# Altium footprint library SamacSys.PcbLib: 26 footprints (part 1 of 2)
Each footprint in its own frame and in the unit in brackets; x right, y up, seen from the top. Pads: shape width x height; smd on the part's side, far side on the other; paste and mask are expansions set on the pad; w line width, h text height; cw(c..) or ccw(c..) is an arc to the next point about the centre after c.
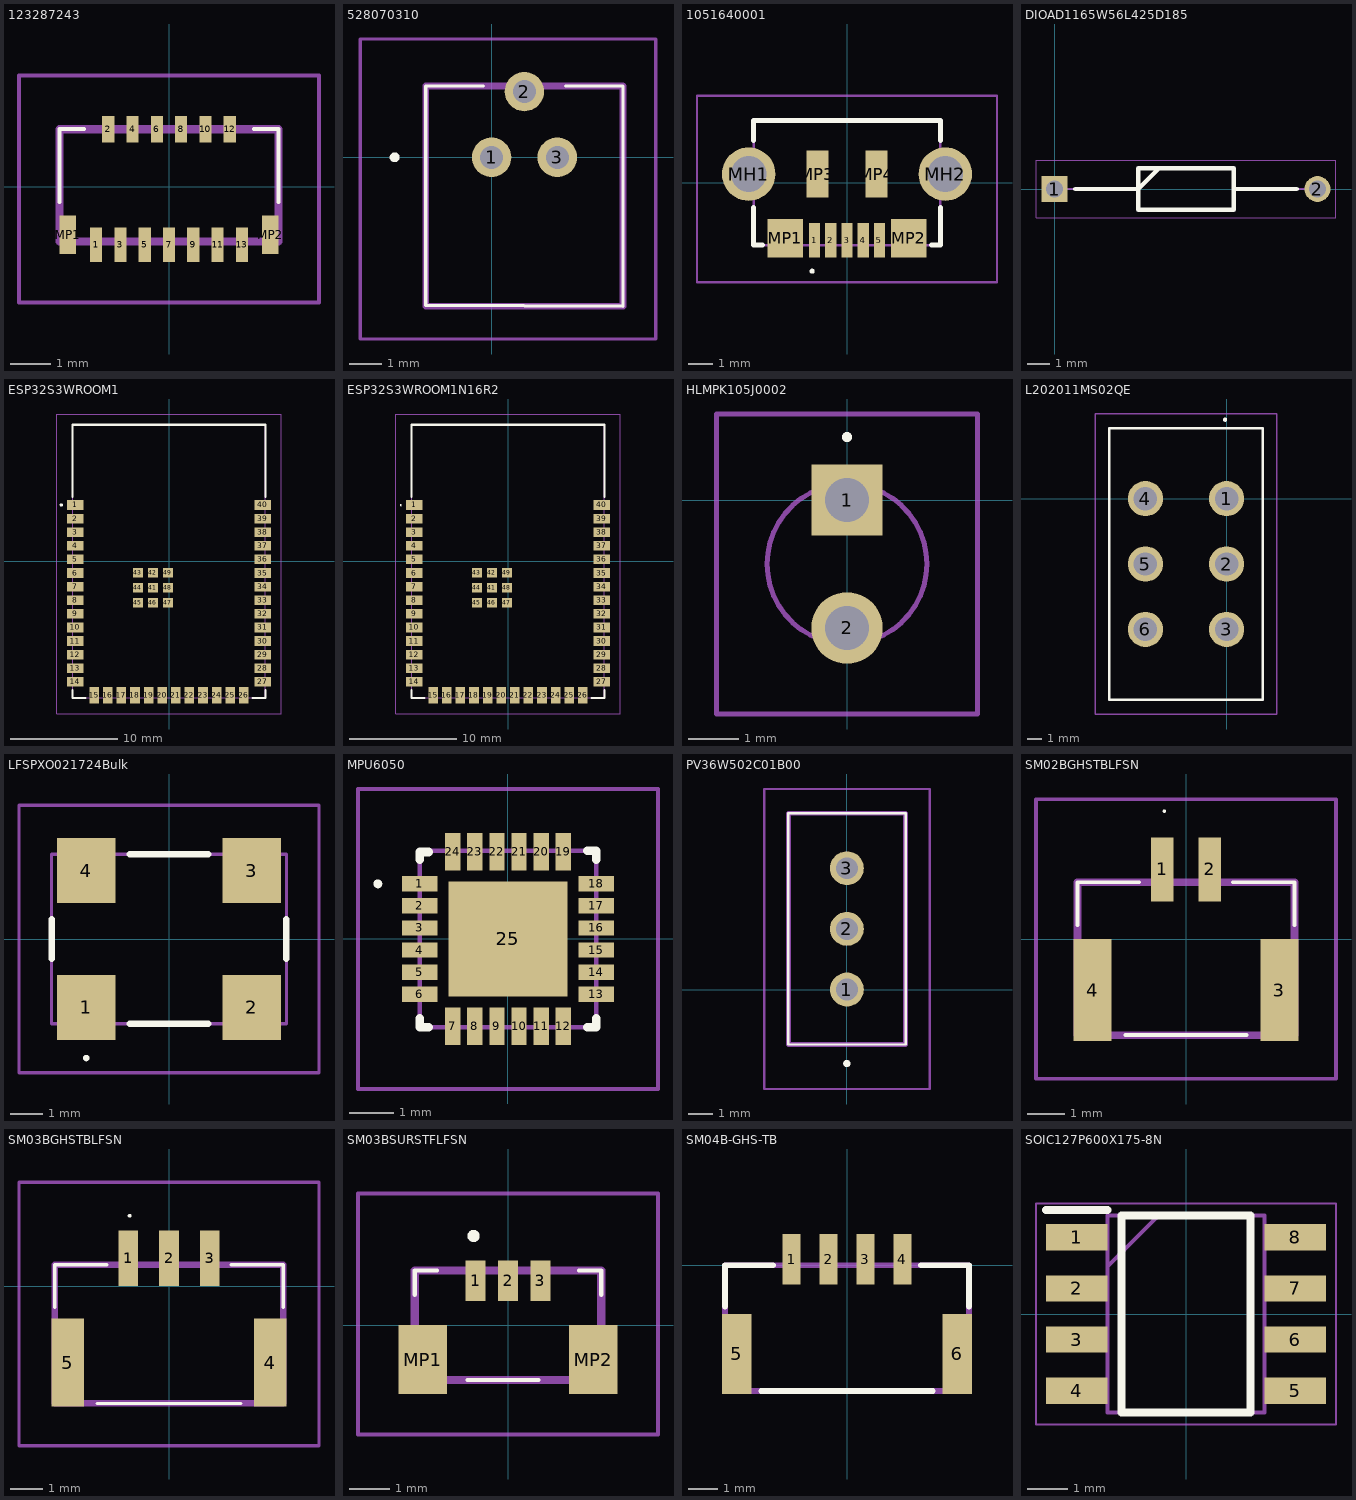
[diagram p0: the footprints below, top view; thin cyan lines are the x and y axes]

## 123287243 [mm]
pads (15):
  rect 0.3x0.85 smd: 1(-1.8,-1.425) 3(-1.2,-1.425) 5(-0.6,-1.425) 7(0,-1.425) 9(0.6,-1.425) 11(1.2,-1.425) 13(1.8,-1.425)
  rect 0.3x0.65 smd: 2(-1.5,1.425) 4(-0.9,1.425) 6(-0.3,1.425) 8(0.3,1.425) 10(0.9,1.425) 12(1.5,1.425)
  rect 0.4x0.95 smd: MP1(-2.5,-1.175) MP2(2.5,-1.175)
Top Overlay:
  lines w0.1: -2.7,-0.375 -2.7,1.425 -2.1,1.425 ; 2.1,1.425 2.7,1.425 2.7,-0.375
Mechanical 13:
  lines w0.2: -2.7,-1.345 2.7,-1.345 2.7,1.425 -2.7,1.425 -2.7,-1.345
Mechanical 15:
  lines w0.1: -3.7,-2.85 3.7,-2.85 3.7,2.75 -3.7,2.75 -3.7,-2.85
3D body "1-2328724-3.stp": height 1, standoff 0, extent -2.7,-1.957 2.7,1.52

## 528070310 [mm]
pads (3):
  round 1.2 hole 0.7: 1(0,0) 2(1,2) 3(2,0)
Top Overlay:
  lines w0.1: -0.25,2.17 -2,2.17 -2,-4.5 4,-4.53 4,2.17 2.25,2.17
  lines w0.2: -3,0 ccw(c-2.95,0) -2.9,0 ; -3,0 cw(c-2.95,0) -2.9,0 ; -3,0 ccw(c-2.95,0) -2.9,0
Mechanical 13:
  lines w0.2: -2,-4.53 -2,2.17 4,2.17 4,-4.53 -2,-4.53
Mechanical 15:
  lines w0.1: -4,-5.53 -4,3.6 5,3.6 5,-5.53 -4,-5.53
3D body "52807-0310.stp": height 3.6, standoff -3.2, extent -2,-4.5 4,2.2

## 1051640001 [mm]
pads (11):
  rect 0.45x1.38 smd: 1(-1.3,-2.31) 2(-0.65,-2.31) 3(0,-2.31) 4(0.65,-2.31) 5(1.3,-2.31)
  round 2.145 hole 1.43: MH1(-3.95,0.35) MH2(3.95,0.35)
  rect 1.425x1.55 smd: MP1(-2.487,-2.225) MP2(2.487,-2.225)
  rect 0.875x1.9 smd: MP3(-1.188,0.35) MP4(1.188,0.35)
Top Overlay:
  lines w0.1: -1.4,-3.6 ccw(c-1.4,-3.55) -1.4,-3.5 ccw(c-1.4,-3.55) -1.4,-3.6
  lines w0.2: -3.75,-1 -3.75,-2.5 -3.4,-2.5 ; -3.75,1.7 -3.75,2.5 3.75,2.5 3.75,1.7 ; 3.4,-2.5 3.75,-2.5 3.75,-1
Mechanical 13:
  lines w0.1: -3.75,-2.5 3.75,-2.5 3.75,2.5 -3.75,2.5 -3.75,-2.5
Mechanical 15:
  lines w0.1: -6.022,-4 6.022,-4 6.022,3.5 -6.022,3.5 -6.022,-4
3D body "105164-0001.stp": height 2.56, standoff -0.69, extent -4.1,-2.82 4.1,2.33

## DIOAD1165W56L425D185 [mm]
pads (2):
  rect 1.15x1.15 hole 0.75: 1(0,0)
  round 1.15 hole 0.75: 2(11.7,0)
Top Overlay:
  lines w0.2: 0.925,0 3.725,0 4.65,0.925 ; 7.975,0 10.775,0 ; 3.725,-0.925 7.975,-0.925 7.975,0.925 3.725,0.925 3.725,-0.925
Mechanical 13:
  lines w0.1: 0,0 3.725,0 4.65,0.925 ; 7.975,0 11.7,0 ; 3.725,-0.925 7.975,-0.925 7.975,0.925 3.725,0.925 3.725,-0.925
Mechanical 15:
  lines w0.05: -0.825,-1.275 12.525,-1.275 12.525,1.275 -0.825,1.275 -0.825,-1.275

## ESP32S3WROOM1 [mm]
pads (49):
  rect 1.5x0.9 smd: 1(-8.75,5.26) 2(-8.75,3.99) 3(-8.75,2.72) 4(-8.75,1.45) 5(-8.75,0.18) 6(-8.75,-1.09) 7(-8.75,-2.36) 8(-8.75,-3.63) 9(-8.75,-4.9) 10(-8.75,-6.17) 11(-8.75,-7.44) 12(-8.75,-8.71) 13(-8.75,-9.98) 14(-8.75,-11.25) 27(8.75,-11.25) 28(8.75,-9.98) 29(8.75,-8.71) 30(8.75,-7.44) 31(8.75,-6.17) 32(8.75,-4.9) 33(8.75,-3.63) 34(8.75,-2.36) 35(8.75,-1.09) 36(8.75,0.18) 37(8.75,1.45) 38(8.75,2.72) 39(8.75,3.99) 40(8.75,5.26)
  rect 0.9x1.5 smd: 15(-6.985,-12.5) 16(-5.715,-12.5) 17(-4.445,-12.5) 18(-3.175,-12.5) 19(-1.905,-12.5) 20(-0.635,-12.5) 21(0.635,-12.5) 22(1.905,-12.5) 23(3.175,-12.5) 24(4.445,-12.5) 25(5.715,-12.5) 26(6.985,-12.5)
  rect 0.9x0.9 smd: 41(-1.5,-2.46) 42(-1.5,-1.06) 43(-2.9,-1.06) 44(-2.9,-2.46) 45(-2.9,-3.86) 46(-1.5,-3.86) 47(-0.1,-3.86) 48(-0.1,-2.46) 49(-0.1,-1.06)
Top Overlay:
  lines w0.2: -9,-12 -9,-12.75 -7.8,-12.75 ; -9,6 -9,12.75 9,12.75 9,6 ; 7.8,-12.75 9,-12.75 9,-12 ; -10.1,5.26 ccw(c-10.05,5.26) -10,5.26 ; -10.1,5.26 cw(c-10.05,5.26) -10,5.26 ; -10.1,5.26 ccw(c-10.05,5.26) -10,5.26
Mechanical 13:
  lines w0.1: -9,-12.75 -9,12.75 9,12.75 9,-12.75 -9,-12.75
Mechanical 15:
  lines w0.1: -10.5,-14.25 -10.5,13.75 10.5,13.75 10.5,-14.25 -10.5,-14.25
3D body "ESP32-S3-WROOM-1.stp": height 3.1, standoff 0, extent -9,-12.75 9,12.75

## ESP32S3WROOM1N16R2 [mm]
pads (49):
  rect 1.5x0.9 smd: 1(-8.75,5.26) 2(-8.75,3.99) 3(-8.75,2.72) 4(-8.75,1.45) 5(-8.75,0.18) 6(-8.75,-1.09) 7(-8.75,-2.36) 8(-8.75,-3.63) 9(-8.75,-4.9) 10(-8.75,-6.17) 11(-8.75,-7.44) 12(-8.75,-8.71) 13(-8.75,-9.98) 14(-8.75,-11.25) 27(8.75,-11.25) 28(8.75,-9.98) 29(8.75,-8.71) 30(8.75,-7.44) 31(8.75,-6.17) 32(8.75,-4.9) 33(8.75,-3.63) 34(8.75,-2.36) 35(8.75,-1.09) 36(8.75,0.18) 37(8.75,1.45) 38(8.75,2.72) 39(8.75,3.99) 40(8.75,5.26)
  rect 0.9x1.5 smd: 15(-6.985,-12.5) 16(-5.715,-12.5) 17(-4.445,-12.5) 18(-3.175,-12.5) 19(-1.905,-12.5) 20(-0.635,-12.5) 21(0.635,-12.5) 22(1.905,-12.5) 23(3.175,-12.5) 24(4.445,-12.5) 25(5.715,-12.5) 26(6.985,-12.5)
  rect 0.9x0.9 smd: 41(-1.5,-2.46) 42(-1.5,-1.06) 43(-2.9,-1.06) 44(-2.9,-2.46) 45(-2.9,-3.86) 46(-1.5,-3.86) 47(-0.1,-3.86) 48(-0.1,-2.46) 49(-0.1,-1.06)
Top Overlay:
  lines w0.1: -10,5.2 cw(c-10,5.25) -10,5.3 cw(c-10,5.25) -10,5.2
  lines w0.2: -9,-12 -9,-12.75 -7.8,-12.75 ; -9,6 -9,12.75 9,12.75 9,6 ; 7.8,-12.75 9,-12.75 9,-12
Mechanical 13:
  lines w0.1: -9,-12.75 -9,12.75 9,12.75 9,-12.75 -9,-12.75
Mechanical 15:
  lines w0.1: -10.5,-14.25 -10.5,13.75 10.5,13.75 10.5,-14.25 -10.5,-14.25
3D body "ESP32-S3-WROOM-1-N16R2.stp": height 3.35, standoff 0, extent -9,-12.75 9,12.75

## HLMPK105J0002 [mm]
pads (2):
  rect 1.414x1.414 hole 0.87: 1(0,0)
  round 1.414 hole 0.87: 2(0,-2.54)
Top Overlay:
  lines w0.1: 0,1.2 cw(c0,1.25) 0,1.3 cw(c0,1.25) 0,1.2
Mechanical 13:
  lines w0.1: -1.587,-1.27 cw(c0,-1.27) 1.587,-1.27 cw(c0,-1.27) -1.587,-1.27
Mechanical 15:
  lines w0.1: -2.587,-4.247 -2.587,1.707 2.587,1.707 2.587,-4.247 -2.587,-4.247
3D body "HLMP-K105-J0002.stp": height 6.45, standoff -5, extent -1.587,-2.874 1.587,0.334

## L202011MS02QE [mm]
pads (6):
  round 2.475 hole 1.65: 1(0,0) 2(0,-4.6) 3(0,-9.2) 4(-5.7,0) 5(-5.7,-4.6) 6(-5.7,-9.2)
Top Overlay:
  lines w0.2: -0.1,5.5 ccw(c-0.1,5.55) -0.1,5.6 ; -0.1,5.5 cw(c-0.1,5.55) -0.1,5.6 ; -0.1,5.5 ccw(c-0.1,5.55) -0.1,5.6 ; -8.245,-14.15 -8.245,4.95 2.545,4.95 2.545,-14.15 -8.245,-14.15
Mechanical 13:
  lines w0.1: -8.245,-14.15 -8.245,4.95 2.545,4.95 2.545,-14.15 -8.245,-14.15
Mechanical 15:
  lines w0.1: -9.245,-15.15 -9.245,5.95 3.545,5.95 3.545,-15.15 -9.245,-15.15
3D body "L202011MS02QE.stp": height 17.71, standoff -5, extent -8.245,-14.15 2.545,4.95

## LFSPXO021724Bulk [mm]
pads (4):
  rect 1.8x2 smd: 1(-2.54,-2.1) 2(2.54,-2.1) 3(2.54,2.1) 4(-2.54,2.1)
Top Overlay:
  lines w0.1: -2.54,-3.7 ccw(c-2.54,-3.65) -2.54,-3.6 ccw(c-2.54,-3.65) -2.54,-3.7
  lines w0.2: -3.6,-0.6 -3.6,0.6 ; -1.2,-2.6 1.2,-2.6 ; -1.2,2.6 1.2,2.6 ; 3.6,-0.6 3.6,0.6
Mechanical 13:
  lines w0.1: -3.6,-2.6 -3.6,2.6 3.6,2.6 3.6,-2.6 -3.6,-2.6
Mechanical 15:
  lines w0.1: -4.6,-4.1 -4.6,4.1 4.6,4.1 4.6,-4.1 -4.6,-4.1
3D body "LFSPXO021724Bulk.stp": height 1.5, standoff 0, extent -3.6,-2.92 3.6,2.92

## MPU6050 [mm]
pads (25):
  rect 0.8x0.35 smd: 1(-2,1.25) 2(-2,0.75) 3(-2,0.25) 4(-2,-0.25) 5(-2,-0.75) 6(-2,-1.25) 13(2,-1.25) 14(2,-0.75) 15(2,-0.25) 16(2,0.25) 17(2,0.75) 18(2,1.25)
  rect 0.35x0.85 smd: 7(-1.25,-1.975) 8(-0.75,-1.975) 9(-0.25,-1.975) 10(0.25,-1.975) 11(0.75,-1.975) 12(1.25,-1.975) 19(1.25,1.975) 20(0.75,1.975) 21(0.25,1.975) 22(-0.25,1.975) 23(-0.75,1.975) 24(-1.25,1.975)
  rect 2.7x2.6 smd: 25(0,0)
Top Overlay:
  lines w0.1: -3,1.25 cw(c-2.95,1.25) -2.9,1.25 cw(c-2.95,1.25) -3,1.25
  lines w0.2: -2,-1.8 -2,-2 -1.8,-2 ; -2,1.8 -2,1.975 -1.8,1.975 ; 1.8,-2 2,-2 2,-1.8 ; 1.8,2 2,2 2,1.8
Mechanical 13:
  lines w0.1: -2,-2 -2,2 2,2 2,-2 -2,-2
Mechanical 15:
  lines w0.1: -3.4,-3.4 -3.4,3.4 3.4,3.4 3.4,-3.4 -3.4,-3.4
3D body "MPU6050.stp": height 1.05, standoff 0, extent -2,-2 2,2

## PV36W502C01B00 [mm]
pads (3):
  round 1.4 hole 0.9: 1(0,0) 2(0,2.5) 3(0,5)
Top Overlay:
  lines w0.1: -2.41,-2.265 -2.41,7.265 2.42,7.265 2.42,-2.265 -2.41,-2.265
  lines w0.2: 0,-3.1 cw(c0,-3.05) 0,-3 ; 0,-3.1 ccw(c0,-3.05) 0,-3 ; 0,-3.1 cw(c0,-3.05) 0,-3
Mechanical 13:
  lines w0.2: -2.41,-2.265 -2.41,7.265 2.42,7.265 2.42,-2.265 -2.41,-2.265
Mechanical 15:
  lines w0.1: -3.41,-4.1 -3.41,8.265 3.42,8.265 3.42,-4.1 -3.41,-4.1
3D body "PV36W502C01B00.stp": height 11.65, standoff -5, extent -2.41,-2.265 2.42,7.265

## SM02BGHSTBLFSN [mm]
pads (4):
  rect 0.6x1.7 smd: 1(-0.625,1.845) 2(0.625,1.845)
  rect 1x2.7 smd: 3(2.475,-1.355) 4(-2.475,-1.355)
Top Overlay:
  lines w0.046: -0.596,3.39 ccw(c-0.573,3.39) -0.55,3.39 ccw(c-0.573,3.39) -0.596,3.39
  lines w0.1: -2.875,0.369 -2.875,1.505 -1.238,1.505 ; -1.6,-2.545 1.6,-2.545 ; 1.238,1.505 2.875,1.505 2.875,0.369
Mechanical 13:
  lines w0.2: -2.875,-2.545 2.875,-2.545 2.875,1.505 -2.875,1.505 -2.875,-2.545
Mechanical 15:
  lines w0.1: -3.975,-3.705 3.975,-3.705 3.975,3.705 -3.975,3.705 -3.975,-3.705
3D body "SM02B-GHS-TB_LF__SN_.stp": height 4.41, standoff 0.01, extent -2.875,-2.425 2.875,2.425

## SM03BGHSTBLFSN [mm]
pads (5):
  rect 0.6x1.7 smd: 1(-1.25,0.85) 2(0,0.85) 3(1.25,0.85)
  rect 1x2.7 smd: 4(3.1,-2.35) 5(-3.1,-2.35)
Top Overlay:
  lines w0.058: -1.237,2.156 ccw(c-1.208,2.156) -1.179,2.156 ccw(c-1.208,2.156) -1.237,2.156
  lines w0.1: -3.5,-0.656 -3.5,0.65 -1.907,0.65 ; -2.2,-3.6 2.2,-3.6 ; 1.907,0.65 3.5,0.65 3.5,-0.656
Mechanical 13:
  lines w0.2: -3.5,-3.6 3.5,-3.6 3.5,0.65 -3.5,0.65 -3.5,-3.6
Mechanical 15:
  lines w0.1: -4.6,-4.901 4.6,-4.901 4.6,3.185 -4.6,3.185 -4.6,-4.901
3D body "SM03B-GHS-TB_LF__SN_.stp": height 4.45, standoff 0, extent -3.5,-3.555 3.5,1.295

## SM03BSURSTFLFSN [mm]
pads (5):
  rect 0.5x1 smd: 1(-0.8,1.1) 2(0,1.1) 3(0.8,1.1)
  rect 1.2x1.7 smd: MP1(-2.1,-0.85) MP2(2.1,-0.85)
Top Overlay:
  lines w0.1: -2.3,1.35 -1.75,1.35 -2.3,1.35 ; -2.3,1.35 -2.3,0.75 -2.3,1.35 ; 2.3,1.35 2.3,0.75 2.3,1.35 ; 2.3,1.35 1.75,1.35 2.3,1.35 ; -1,-1.35 0.75,-1.35 -1,-1.35
  lines w0.2: -0.9,2.2 ccw(c-0.85,2.2) -0.8,2.2 ; -0.9,2.2 cw(c-0.85,2.2) -0.8,2.2 ; -0.9,2.2 ccw(c-0.85,2.2) -0.8,2.2
Mechanical 13:
  lines w0.2: -2.3,-1.35 -2.3,1.35 2.3,1.35 2.3,-1.35 -2.3,-1.35
Mechanical 15:
  lines w0.1: -3.7,-2.7 -3.7,3.25 3.7,3.25 3.7,-2.7 -3.7,-2.7
3D body "SM03B-SURS-TF_LF__SN_.stp": height 1.85, standoff 0, extent -2.58,-1.58 2.58,1.55

## SM04B-GHS-TB [mm]
pads (6):
  rect 0.6x1.7 smd: 1(-1.875,0.2) 2(-0.625,0.2) 3(0.625,0.2) 4(1.875,0.2)
  rect 1x2.7 smd: 5(-3.725,-3) 6(3.725,-3)
Top Overlay:
  lines w0.2: -4.125,-1.4 -4.125,0 -2.5,0 ; -2.9,-4.25 2.9,-4.25 ; 2.5,0 4.125,0 4.125,-1.4
Mechanical 13:
  lines w0.2: -4.125,-4.25 -4.125,0 4.125,0 4.125,-4.25 -4.125,-4.25
3D body "SM04B-GHS-TB_LF__SN_.stp": height 4.45, standoff 0, extent -4.12,-4.125 4.13,0.725

## SOIC127P600X175-8N [mm]
pads (8):
  rect 1.525x0.65 smd: 1(-2.712,1.905) 2(-2.712,0.635) 3(-2.712,-0.635) 4(-2.712,-1.905) 5(2.712,-1.905) 6(2.712,-0.635) 7(2.712,0.635) 8(2.712,1.905)
Top Overlay:
  lines w0.2: -3.475,2.58 -1.95,2.58 ; -1.6,-2.45 -1.6,2.45 1.6,2.45 1.6,-2.45 -1.6,-2.45
Mechanical 13:
  lines w0.1: -1.95,1.18 -0.68,2.45 ; -1.95,-2.45 -1.95,2.45 1.95,2.45 1.95,-2.45 -1.95,-2.45
Mechanical 15:
  lines w0.05: -3.725,-2.75 -3.725,2.75 3.725,2.75 3.725,-2.75 -3.725,-2.75
3D body "NE555DR.stp": height 1.75, standoff 0, extent -3,-2.45 3,2.45